# EAGLE library part 66100811722 (library power_distribution)
Male Right Angled Shrouded Header
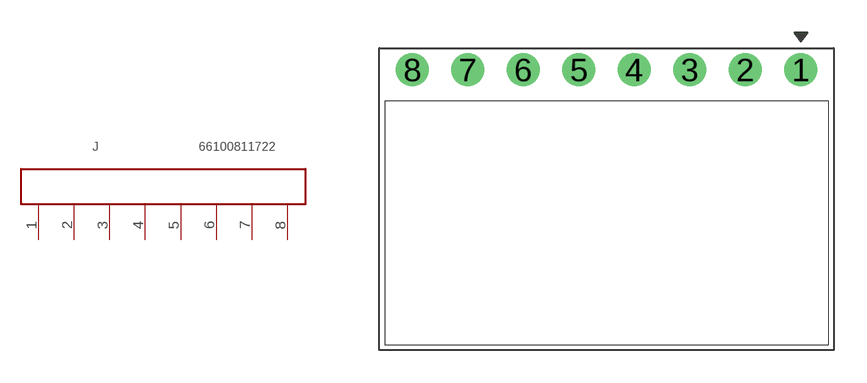
[diagram p6: symbol with the pads of 66100811722; footprint 66100811722]

Designator prefix J

## 66100811722 (MF: Würth Elektronik; MPN: 66100811722)  [66100811722]
1  8  pas
2  7  pas
3  6  pas
4  5  pas
5  4  pas
6  3  pas
7  2  pas
8  1  pas

## Footprint 66100811722 (pad centres in mm)
drill 1: 1 8.89,0; 2 6.35,0; 3 3.81,0; 4 1.27,0; 5 -1.27,0; 6 -3.81,0; 7 -6.35,0; 8 -8.89,0